# Altium integrated library Altera MAX 5000.IntLib: 45 symbols (part 1 of 2)
Pins are listed as number, name and electrical type; pins without a type are passive.

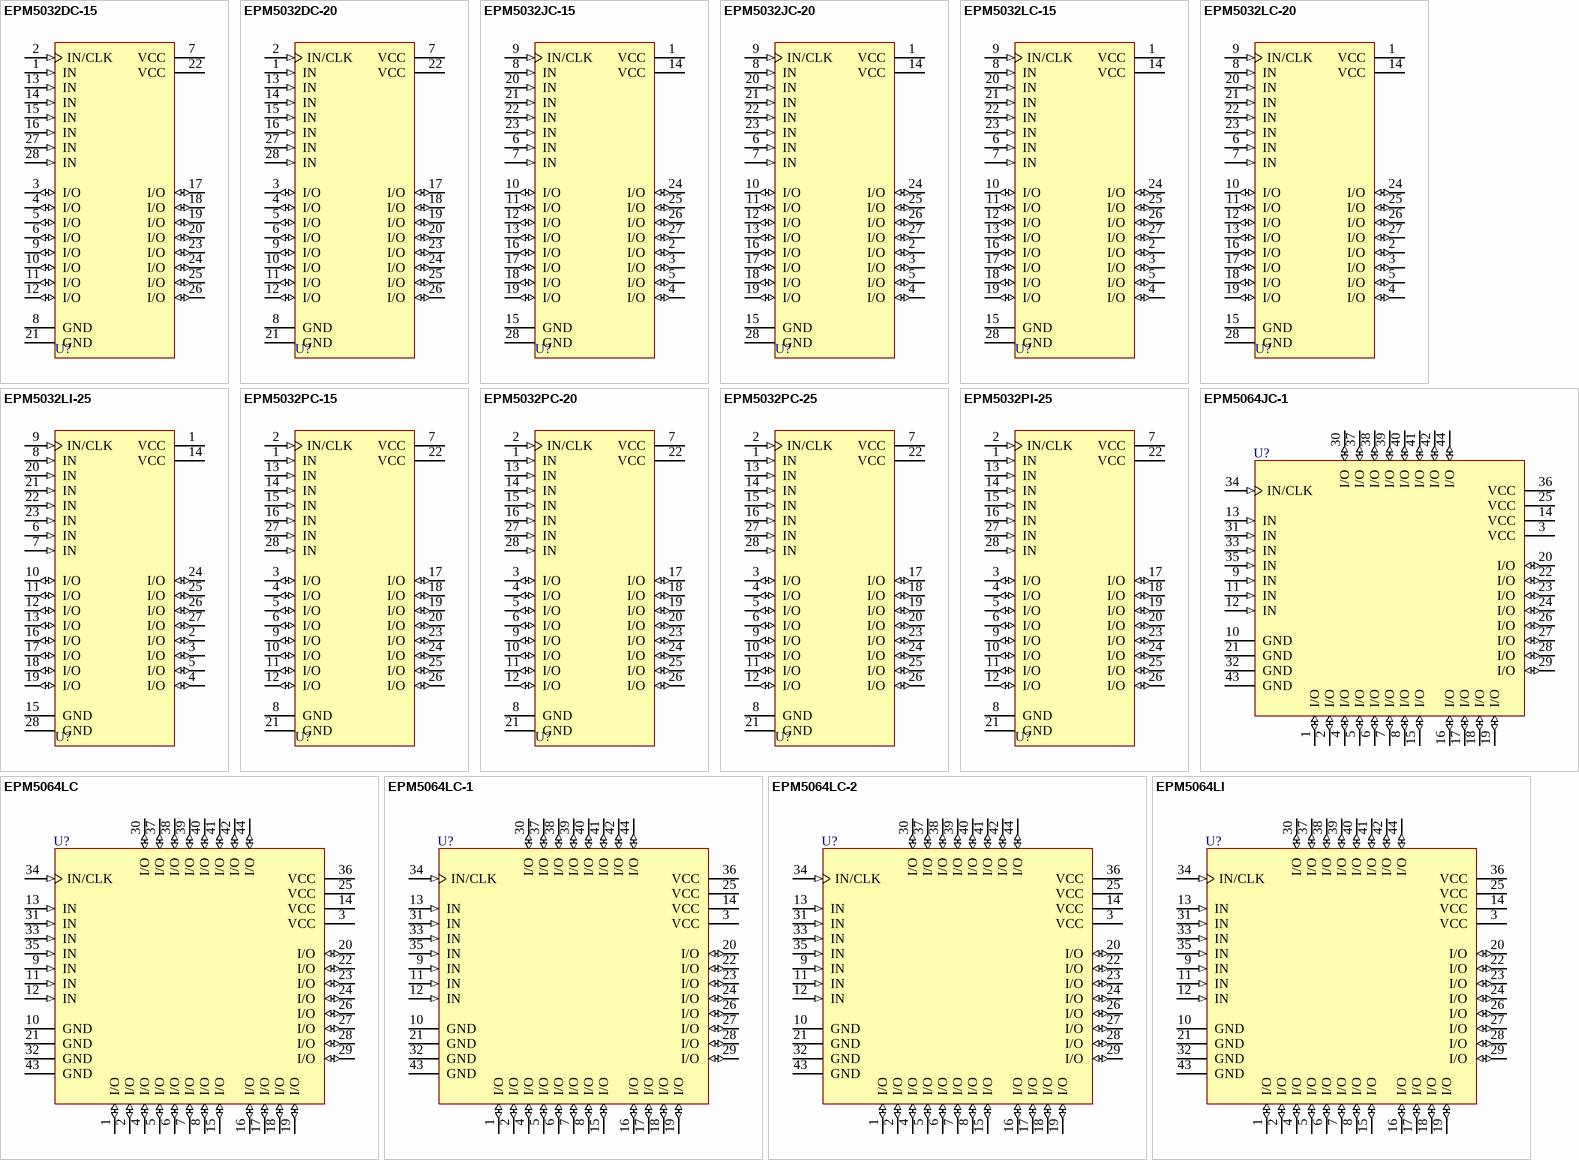
[diagram p0: symbols EPM5032DC-15 to EPM5064LI]

## EPM5032DC-15
designator U?
Single-LAB MAX 5000 EPLD, 28-Pin CDIP, Commercial Grade; ComponentAvailability: Discontinued; Published: 24-Nov-2000; LatestRevisionDate: 04-Mar-2005; LatestRevisionNote: Stylized 3D Model Added.; DatasheetVersion: Sep-1991; PackageVersion: ver8.02, Jun-2000; PackageReference: CerDIP28; Publisher: Altium Limited; PackageDescription: 28-Pin Ceramic Dual In-Line Package (CerDIP); Code_JEDEC: MO-058; ComponentLink1Description: Manufacturer Link; ComponentLink1URL: http://www.altera.com/literature/lit-mature.jsp
footprint CerDIP28 (28-Pin Ceramic Dual In-Line Package (CerDIP))
3D model CerDIP28 (28-Pin Ceramic Dual In-Line Package (CerDIP))
pins: 1 IN (in), 2 IN/CLK (in), 3 I/O (io), 4 I/O (io), 5 I/O (io), 6 I/O (io), 7 VCC (power), 8 GND (power), 9 I/O (io), 10 I/O (io), 11 I/O (io), 12 I/O (io), 13 IN (in), 14 IN (in), 15 IN (in), 16 IN (in), 17 I/O (io), 18 I/O (io), 19 I/O (io), 20 I/O (io), 21 GND (power), 22 VCC (power), 23 I/O (io), 24 I/O (io), 25 I/O (io), 26 I/O (io), 27 IN (in), 28 IN (in)

## EPM5032DC-20
designator U?
Single-LAB MAX 5000 EPLD, 28-Pin CDIP, Commercial Grade; ComponentAvailability: Discontinued; Published: 24-Nov-2000; LatestRevisionDate: 04-Mar-2005; LatestRevisionNote: Stylized 3D Model Added.; DatasheetVersion: Sep-1991; PackageVersion: ver8.02, Jun-2000; PackageReference: CerDIP28; Publisher: Altium Limited; PackageDescription: 28-Pin Ceramic Dual In-Line Package (CerDIP); Code_JEDEC: MO-058; ComponentLink1Description: Manufacturer Link; ComponentLink1URL: http://www.altera.com/literature/lit-mature.jsp
footprint CerDIP28 (28-Pin Ceramic Dual In-Line Package (CerDIP))
3D model CerDIP28 (28-Pin Ceramic Dual In-Line Package (CerDIP))
pins: 1 IN (in), 2 IN/CLK (in), 3 I/O (io), 4 I/O (io), 5 I/O (io), 6 I/O (io), 7 VCC (power), 8 GND (power), 9 I/O (io), 10 I/O (io), 11 I/O (io), 12 I/O (io), 13 IN (in), 14 IN (in), 15 IN (in), 16 IN (in), 17 I/O (io), 18 I/O (io), 19 I/O (io), 20 I/O (io), 21 GND (power), 22 VCC (power), 23 I/O (io), 24 I/O (io), 25 I/O (io), 26 I/O (io), 27 IN (in), 28 IN (in)

## EPM5032JC-15
designator U?
Single-LAB MAX 5000 EPLD, 28-Pin JLCC, Commercial Grade; ComponentAvailability: Discontinued; Published: 24-Nov-2000; LatestRevisionDate: 13-Apr-2006; LatestRevisionNote: IPC-7351 Footprint Added.; DatasheetVersion: Sep-1991; PackageVersion: ver8.02, Jun-2000; PackageReference: JLCC28; Publisher: Altium Limited; PackageDescription: 28-Pin Ceramic J-Lead Chip Carrier (JLCC28); Code_JEDEC: MO-087; ComponentLink1Description: Manufacturer Link; ComponentLink1URL: http://www.altera.com/literature/lit-mature.jsp
footprint JLCC28_N (Leaded Chip Carrier, 28-Leads, Body 11.4x11.4mm, Pitch 1.27mm, IPC Medium Density)
footprint JLCC28_L (Leaded Chip Carrier, 28-Leads, Body 11.4x11.4mm, Pitch 1.27mm, IPC High Density)
footprint JLCC28_M (Leaded Chip Carrier, 28-Leads, Body 11.4x11.4mm, Pitch 1.27mm, IPC Low Density)
3D model EPM5032-JLCC28 (28-Pin Ceramic J-Lead Chip Carrier (JLCC28))
pins: 1 VCC (power), 2 I/O (io), 3 I/O (io), 4 I/O (io), 5 I/O (io), 6 IN (in), 7 IN (in), 8 IN (in), 9 IN/CLK (in), 10 I/O (io), 11 I/O (io), 12 I/O (io), 13 I/O (io), 14 VCC (power), 15 GND (power), 16 I/O (io), 17 I/O (io), 18 I/O (io), 19 I/O (io), 20 IN (in), 21 IN (in), 22 IN (in), 23 IN (in), 24 I/O (io), 25 I/O (io), 26 I/O (io), 27 I/O (io), 28 GND (power)

## EPM5032JC-20
designator U?
Single-LAB MAX 5000 EPLD, 28-Pin JLCC, Commercial Grade; ComponentAvailability: Discontinued; Published: 24-Nov-2000; LatestRevisionDate: 13-Apr-2006; LatestRevisionNote: IPC-7351 Footprint Added.; DatasheetVersion: Sep-1991; PackageVersion: ver8.02, Jun-2000; PackageReference: JLCC28; Publisher: Altium Limited; PackageDescription: 28-Pin Ceramic J-Lead Chip Carrier (JLCC28); Code_JEDEC: MO-087; ComponentLink1Description: Manufacturer Link; ComponentLink1URL: http://www.altera.com/literature/lit-mature.jsp
footprint JLCC28_N (Leaded Chip Carrier, 28-Leads, Body 11.4x11.4mm, Pitch 1.27mm, IPC Medium Density)
footprint JLCC28_L (Leaded Chip Carrier, 28-Leads, Body 11.4x11.4mm, Pitch 1.27mm, IPC High Density)
footprint JLCC28_M (Leaded Chip Carrier, 28-Leads, Body 11.4x11.4mm, Pitch 1.27mm, IPC Low Density)
3D model EPM5032-JLCC28 (28-Pin Ceramic J-Lead Chip Carrier (JLCC28))
pins: 1 VCC (power), 2 I/O (io), 3 I/O (io), 4 I/O (io), 5 I/O (io), 6 IN (in), 7 IN (in), 8 IN (in), 9 IN/CLK (in), 10 I/O (io), 11 I/O (io), 12 I/O (io), 13 I/O (io), 14 VCC (power), 15 GND (power), 16 I/O (io), 17 I/O (io), 18 I/O (io), 19 I/O (io), 20 IN (in), 21 IN (in), 22 IN (in), 23 IN (in), 24 I/O (io), 25 I/O (io), 26 I/O (io), 27 I/O (io), 28 GND (power)

## EPM5032LC-15
designator U?
Single-LAB MAX 5000 EPLD, PLCC28, Commercial Grade; ComponentAvailability: Discontinued; Published: 24-Nov-2000; LatestRevisionDate: 13-Apr-2006; LatestRevisionNote: IPC-7351 Footprint Added.; DatasheetVersion: Sep-1991; PackageVersion: ver14.1, Oct-2005; PackageReference: PLCC28; Publisher: Altium Limited; PackageDescription: 28-Pin Plastic J-Lead Chip Carrier (PLCC28); Code_JEDEC: MS-018-AB; ComponentLink1Description: Manufacturer Link; ComponentLink1URL: http://www.altera.com/literature/lit-mature.jsp
footprint PLCC28_N (Leaded Chip Carrier, 28-Leads, Body 11.5x11.5mm, Pitch 1.27mm, IPC Medium Density)
footprint PLCC28_L (Leaded Chip Carrier, 28-Leads, Body 11.5x11.5mm, Pitch 1.27mm, IPC High Density)
footprint PLCC28_M (Leaded Chip Carrier, 28-Leads, Body 11.5x11.5mm, Pitch 1.27mm, IPC Low Density)
3D model EPM5032-PLCC28 (28-Pin Plastic J-Lead Chip Carrier (PLCC28))
pins: 1 VCC (power), 2 I/O (io), 3 I/O (io), 4 I/O (io), 5 I/O (io), 6 IN (in), 7 IN (in), 8 IN (in), 9 IN/CLK (in), 10 I/O (io), 11 I/O (io), 12 I/O (io), 13 I/O (io), 14 VCC (power), 15 GND (power), 16 I/O (io), 17 I/O (io), 18 I/O (io), 19 I/O (io), 20 IN (in), 21 IN (in), 22 IN (in), 23 IN (in), 24 I/O (io), 25 I/O (io), 26 I/O (io), 27 I/O (io), 28 GND (power)

## EPM5032LC-20
designator U?
Single-LAB MAX 5000 EPLD, PLCC28, Commercial Grade; ComponentAvailability: Discontinued; Published: 24-Nov-2000; LatestRevisionDate: 13-Apr-2006; LatestRevisionNote: IPC-7351 Footprint Added.; DatasheetVersion: Sep-1991; PackageVersion: ver14.1, Oct-2005; PackageReference: PLCC28; Publisher: Altium Limited; PackageDescription: 28-Pin Plastic J-Lead Chip Carrier (PLCC28); Code_JEDEC: MS-018-AB; ComponentLink1Description: Manufacturer Link; ComponentLink1URL: http://www.altera.com/literature/lit-mature.jsp
footprint PLCC28_N (Leaded Chip Carrier, 28-Leads, Body 11.5x11.5mm, Pitch 1.27mm, IPC Medium Density)
footprint PLCC28_L (Leaded Chip Carrier, 28-Leads, Body 11.5x11.5mm, Pitch 1.27mm, IPC High Density)
footprint PLCC28_M (Leaded Chip Carrier, 28-Leads, Body 11.5x11.5mm, Pitch 1.27mm, IPC Low Density)
3D model EPM5032-PLCC28 (28-Pin Plastic J-Lead Chip Carrier (PLCC28))
pins: 1 VCC (power), 2 I/O (io), 3 I/O (io), 4 I/O (io), 5 I/O (io), 6 IN (in), 7 IN (in), 8 IN (in), 9 IN/CLK (in), 10 I/O (io), 11 I/O (io), 12 I/O (io), 13 I/O (io), 14 VCC (power), 15 GND (power), 16 I/O (io), 17 I/O (io), 18 I/O (io), 19 I/O (io), 20 IN (in), 21 IN (in), 22 IN (in), 23 IN (in), 24 I/O (io), 25 I/O (io), 26 I/O (io), 27 I/O (io), 28 GND (power)

## EPM5032LI-25
designator U?
Single-LAB MAX 5000 EPLD, PLCC28, Industrial Grade; ComponentAvailability: Discontinued; Published: 24-Nov-2000; LatestRevisionDate: 13-Apr-2006; LatestRevisionNote: IPC-7351 Footprint Added.; DatasheetVersion: Sep-1991; PackageVersion: ver14.1, Oct-2005; PackageReference: PLCC28; Publisher: Altium Limited; PackageDescription: 28-Pin Plastic J-Lead Chip Carrier (PLCC28); Code_JEDEC: MS-018-AB; ComponentLink1Description: Manufacturer Link; ComponentLink1URL: http://www.altera.com/literature/lit-mature.jsp
footprint PLCC28_N (Leaded Chip Carrier, 28-Leads, Body 11.5x11.5mm, Pitch 1.27mm, IPC Medium Density)
footprint PLCC28_L (Leaded Chip Carrier, 28-Leads, Body 11.5x11.5mm, Pitch 1.27mm, IPC High Density)
footprint PLCC28_M (Leaded Chip Carrier, 28-Leads, Body 11.5x11.5mm, Pitch 1.27mm, IPC Low Density)
3D model EPM5032-PLCC28 (28-Pin Plastic J-Lead Chip Carrier (PLCC28))
pins: 1 VCC (power), 2 I/O (io), 3 I/O (io), 4 I/O (io), 5 I/O (io), 6 IN (in), 7 IN (in), 8 IN (in), 9 IN/CLK (in), 10 I/O (io), 11 I/O (io), 12 I/O (io), 13 I/O (io), 14 VCC (power), 15 GND (power), 16 I/O (io), 17 I/O (io), 18 I/O (io), 19 I/O (io), 20 IN (in), 21 IN (in), 22 IN (in), 23 IN (in), 24 I/O (io), 25 I/O (io), 26 I/O (io), 27 I/O (io), 28 GND (power)

## EPM5032PC-15
designator U?
Single-LAB MAX 5000 EPLD, 28-Pin PDIP, Commercial Grade; ComponentAvailability: Discontinued; Published: 24-Nov-2000; LatestRevisionDate: 04-Mar-2005; LatestRevisionNote: Stylized 3D Model Added.; DatasheetVersion: Sep-1991; PackageVersion: ver12.0, Oct-2003; PackageReference: PDIP28; Publisher: Altium Limited; PackageDescription: 28-Pin Plastic Dual In-Line Package (PDIP); Code_JEDEC: MS-001-AG; ComponentLink1Description: Manufacturer Link; ComponentLink1URL: http://www.altera.com/literature/lit-mature.jsp
footprint PDIP28 (28-Pin Plastic Dual In-Line Package (PDIP))
3D model PDIP28 (28-Pin Plastic Dual In-Line Package (PDIP))
pins: 1 IN (in), 2 IN/CLK (in), 3 I/O (io), 4 I/O (io), 5 I/O (io), 6 I/O (io), 7 VCC (power), 8 GND (power), 9 I/O (io), 10 I/O (io), 11 I/O (io), 12 I/O (io), 13 IN (in), 14 IN (in), 15 IN (in), 16 IN (in), 17 I/O (io), 18 I/O (io), 19 I/O (io), 20 I/O (io), 21 GND (power), 22 VCC (power), 23 I/O (io), 24 I/O (io), 25 I/O (io), 26 I/O (io), 27 IN (in), 28 IN (in)

## EPM5032PC-20
designator U?
Single-LAB MAX 5000 EPLD, 28-Pin PDIP, Commercial Grade; ComponentAvailability: Discontinued; Published: 24-Nov-2000; LatestRevisionDate: 04-Mar-2005; LatestRevisionNote: Stylized 3D Model Added.; DatasheetVersion: Sep-1991; PackageVersion: ver12.0, Oct-2003; PackageReference: PDIP28; Publisher: Altium Limited; PackageDescription: 28-Pin Plastic Dual In-Line Package (PDIP); Code_JEDEC: MS-001-AG; ComponentLink1Description: Manufacturer Link; ComponentLink1URL: http://www.altera.com/literature/lit-mature.jsp
footprint PDIP28 (28-Pin Plastic Dual In-Line Package (PDIP))
3D model PDIP28 (28-Pin Plastic Dual In-Line Package (PDIP))
pins: 1 IN (in), 2 IN/CLK (in), 3 I/O (io), 4 I/O (io), 5 I/O (io), 6 I/O (io), 7 VCC (power), 8 GND (power), 9 I/O (io), 10 I/O (io), 11 I/O (io), 12 I/O (io), 13 IN (in), 14 IN (in), 15 IN (in), 16 IN (in), 17 I/O (io), 18 I/O (io), 19 I/O (io), 20 I/O (io), 21 GND (power), 22 VCC (power), 23 I/O (io), 24 I/O (io), 25 I/O (io), 26 I/O (io), 27 IN (in), 28 IN (in)

## EPM5032PC-25
designator U?
Single-LAB MAX 5000 EPLD, 28-Pin PDIP, Commercial Grade; ComponentAvailability: Discontinued; Published: 24-Nov-2000; LatestRevisionDate: 04-Mar-2005; LatestRevisionNote: Stylized 3D Model Added.; DatasheetVersion: Sep-1991; PackageVersion: ver12.0, Oct-2003; PackageReference: PDIP28; Publisher: Altium Limited; PackageDescription: 28-Pin Plastic Dual In-Line Package (PDIP); Code_JEDEC: MS-001-AG; ComponentLink1Description: Manufacturer Link; ComponentLink1URL: http://www.altera.com/literature/lit-mature.jsp
footprint PDIP28 (28-Pin Plastic Dual In-Line Package (PDIP))
3D model PDIP28 (28-Pin Plastic Dual In-Line Package (PDIP))
pins: 1 IN (in), 2 IN/CLK (in), 3 I/O (io), 4 I/O (io), 5 I/O (io), 6 I/O (io), 7 VCC (power), 8 GND (power), 9 I/O (io), 10 I/O (io), 11 I/O (io), 12 I/O (io), 13 IN (in), 14 IN (in), 15 IN (in), 16 IN (in), 17 I/O (io), 18 I/O (io), 19 I/O (io), 20 I/O (io), 21 GND (power), 22 VCC (power), 23 I/O (io), 24 I/O (io), 25 I/O (io), 26 I/O (io), 27 IN (in), 28 IN (in)

## EPM5032PI-25
designator U?
Single-LAB MAX 5000 EPLD, 28-Pin PDIP, Industrial Grade; ComponentAvailability: Discontinued; Published: 24-Nov-2000; LatestRevisionDate: 04-Mar-2005; LatestRevisionNote: Stylized 3D Model Added.; DatasheetVersion: Sep-1991; PackageVersion: ver12.0, Oct-2003; PackageReference: PDIP28; Publisher: Altium Limited; PackageDescription: 28-Pin Plastic Dual In-Line Package (PDIP); Code_JEDEC: MS-001-AG; ComponentLink1Description: Manufacturer Link; ComponentLink1URL: http://www.altera.com/literature/lit-mature.jsp
footprint PDIP28 (28-Pin Plastic Dual In-Line Package (PDIP))
3D model PDIP28 (28-Pin Plastic Dual In-Line Package (PDIP))
pins: 1 IN (in), 2 IN/CLK (in), 3 I/O (io), 4 I/O (io), 5 I/O (io), 6 I/O (io), 7 VCC (power), 8 GND (power), 9 I/O (io), 10 I/O (io), 11 I/O (io), 12 I/O (io), 13 IN (in), 14 IN (in), 15 IN (in), 16 IN (in), 17 I/O (io), 18 I/O (io), 19 I/O (io), 20 I/O (io), 21 GND (power), 22 VCC (power), 23 I/O (io), 24 I/O (io), 25 I/O (io), 26 I/O (io), 27 IN (in), 28 IN (in)

## EPM5064JC-1
designator U?
General-Purpose MAX 5000 EPLD with 64 Macrocells, JLCC44, Commercial Grade; ComponentAvailability: Discontinued; Published: 24-Nov-2000; LatestRevisionDate: 13-Apr-2006; LatestRevisionNote: IPC-7351 Footprint Added.; DatasheetVersion: Sep-1991; PackageVersion: ver8.02, Jun-2000; PackageReference: JLCC44; Publisher: Altium Limited; PackageDescription: 44-Pin Ceramic J-Lead Chip Carrier (JLCC44); Code_JEDEC: MO-087; ComponentLink1Description: Manufacturer Link; ComponentLink1URL: http://www.altera.com/literature/lit-mature.jsp
footprint JLCC44_N (Leaded Chip Carrier, 44-Leads, Body 16.5x16.5mm, Pitch 1.27mm, IPC Medium Density)
footprint JLCC44_L (Leaded Chip Carrier, 44-Leads, Body 16.5x16.5mm, Pitch 1.27mm, IPC High Density)
footprint JLCC44_M (Leaded Chip Carrier, 44-Leads, Body 16.5x16.5mm, Pitch 1.27mm, IPC Low Density)
3D model EPM5064-JLCC44 (44-Pin Ceramic J-Lead Chip Carrier (JLCC44))
pins: 1 I/O (io), 2 I/O (io), 3 VCC (power), 4 I/O (io), 5 I/O (io), 6 I/O (io), 7 I/O (io), 8 I/O (io), 9 IN (in), 10 GND (power), 11 IN (in), 12 IN (in), 13 IN (in), 14 VCC (power), 15 I/O (io), 16 I/O (io), 17 I/O (io), 18 I/O (io), 19 I/O (io), 20 I/O (io), 21 GND (power), 22 I/O (io), 23 I/O (io), 24 I/O (io), 25 VCC (power), 26 I/O (io), 27 I/O (io), 28 I/O (io), 29 I/O (io), 30 I/O (io), 31 IN (in), 32 GND (power), 33 IN (in), 34 IN/CLK (in), 35 IN (in), 36 VCC (power), 37 I/O (io), 38 I/O (io), 39 I/O (io), 40 I/O (io), 41 I/O (io), 42 I/O (io), 43 GND (power), 44 I/O (io)

## EPM5064LC
designator U?
General-Purpose MAX 5000 EPLD with 64 Macrocells, PLCC44, Commercial Grade; ComponentAvailability: Discontinued; Published: 24-Nov-2000; LatestRevisionDate: 13-Apr-2006; LatestRevisionNote: IPC-7351 Footprint Added.; DatasheetVersion: Sep-1991; PackageVersion: ver14.1, Oct-2005; PackageReference: PLCC44; Publisher: Altium Limited; PackageDescription: 44-Pin Plastic J-Lead Chip Carrier (PLCC44); Code_JEDEC: MS-018-AC; Code_IPC: PLCC-44; ComponentLink1Description: Manufacturer Link; ComponentLink1URL: http://www.altera.com/literature/lit-mature.jsp
footprint PLCC44_N (Leaded Chip Carrier, 44-Leads, Body 16.6x16.6mm, Pitch 1.27mm, IPC Medium Density)
footprint PLCC44_L (Leaded Chip Carrier, 44-Leads, Body 16.6x16.6mm, Pitch 1.27mm, IPC High Density)
footprint PLCC44_M (Leaded Chip Carrier, 44-Leads, Body 16.6x16.6mm, Pitch 1.27mm, IPC Low Density)
3D model EPM5064-PLCC44 (44-Pin Plastic J-Lead Chip Carrier (PLCC44))
pins: 1 I/O (io), 2 I/O (io), 3 VCC (power), 4 I/O (io), 5 I/O (io), 6 I/O (io), 7 I/O (io), 8 I/O (io), 9 IN (in), 10 GND (power), 11 IN (in), 12 IN (in), 13 IN (in), 14 VCC (power), 15 I/O (io), 16 I/O (io), 17 I/O (io), 18 I/O (io), 19 I/O (io), 20 I/O (io), 21 GND (power), 22 I/O (io), 23 I/O (io), 24 I/O (io), 25 VCC (power), 26 I/O (io), 27 I/O (io), 28 I/O (io), 29 I/O (io), 30 I/O (io), 31 IN (in), 32 GND (power), 33 IN (in), 34 IN/CLK (in), 35 IN (in), 36 VCC (power), 37 I/O (io), 38 I/O (io), 39 I/O (io), 40 I/O (io), 41 I/O (io), 42 I/O (io), 43 GND (power), 44 I/O (io)

## EPM5064LC-1
designator U?
General-Purpose MAX 5000 EPLD with 64 Macrocells, PLCC44, Commercial Grade; ComponentAvailability: Discontinued; Published: 24-Nov-2000; LatestRevisionDate: 13-Apr-2006; LatestRevisionNote: IPC-7351 Footprint Added.; DatasheetVersion: Sep-1991; PackageVersion: ver14.1, Oct-2005; PackageReference: PLCC44; Publisher: Altium Limited; PackageDescription: 44-Pin Plastic J-Lead Chip Carrier (PLCC44); Code_JEDEC: MS-018-AC; Code_IPC: PLCC-44; ComponentLink1Description: Manufacturer Link; ComponentLink1URL: http://www.altera.com/literature/lit-mature.jsp
footprint PLCC44_N (Leaded Chip Carrier, 44-Leads, Body 16.6x16.6mm, Pitch 1.27mm, IPC Medium Density)
footprint PLCC44_L (Leaded Chip Carrier, 44-Leads, Body 16.6x16.6mm, Pitch 1.27mm, IPC High Density)
footprint PLCC44_M (Leaded Chip Carrier, 44-Leads, Body 16.6x16.6mm, Pitch 1.27mm, IPC Low Density)
3D model EPM5064-PLCC44 (44-Pin Plastic J-Lead Chip Carrier (PLCC44))
pins: 1 I/O (io), 2 I/O (io), 3 VCC (power), 4 I/O (io), 5 I/O (io), 6 I/O (io), 7 I/O (io), 8 I/O (io), 9 IN (in), 10 GND (power), 11 IN (in), 12 IN (in), 13 IN (in), 14 VCC (power), 15 I/O (io), 16 I/O (io), 17 I/O (io), 18 I/O (io), 19 I/O (io), 20 I/O (io), 21 GND (power), 22 I/O (io), 23 I/O (io), 24 I/O (io), 25 VCC (power), 26 I/O (io), 27 I/O (io), 28 I/O (io), 29 I/O (io), 30 I/O (io), 31 IN (in), 32 GND (power), 33 IN (in), 34 IN/CLK (in), 35 IN (in), 36 VCC (power), 37 I/O (io), 38 I/O (io), 39 I/O (io), 40 I/O (io), 41 I/O (io), 42 I/O (io), 43 GND (power), 44 I/O (io)

## EPM5064LC-2
designator U?
General-Purpose MAX 5000 EPLD with 64 Macrocells, PLCC44, Commercial Grade; ComponentAvailability: Discontinued; Published: 24-Nov-2000; LatestRevisionDate: 13-Apr-2006; LatestRevisionNote: IPC-7351 Footprint Added.; DatasheetVersion: Sep-1991; PackageVersion: ver14.1, Oct-2005; PackageReference: PLCC44; Publisher: Altium Limited; PackageDescription: 44-Pin Plastic J-Lead Chip Carrier (PLCC44); Code_JEDEC: MS-018-AC; Code_IPC: PLCC-44; ComponentLink1Description: Manufacturer Link; ComponentLink1URL: http://www.altera.com/literature/lit-mature.jsp
footprint PLCC44_N (Leaded Chip Carrier, 44-Leads, Body 16.6x16.6mm, Pitch 1.27mm, IPC Medium Density)
footprint PLCC44_L (Leaded Chip Carrier, 44-Leads, Body 16.6x16.6mm, Pitch 1.27mm, IPC High Density)
footprint PLCC44_M (Leaded Chip Carrier, 44-Leads, Body 16.6x16.6mm, Pitch 1.27mm, IPC Low Density)
3D model EPM5064-PLCC44 (44-Pin Plastic J-Lead Chip Carrier (PLCC44))
pins: 1 I/O (io), 2 I/O (io), 3 VCC (power), 4 I/O (io), 5 I/O (io), 6 I/O (io), 7 I/O (io), 8 I/O (io), 9 IN (in), 10 GND (power), 11 IN (in), 12 IN (in), 13 IN (in), 14 VCC (power), 15 I/O (io), 16 I/O (io), 17 I/O (io), 18 I/O (io), 19 I/O (io), 20 I/O (io), 21 GND (power), 22 I/O (io), 23 I/O (io), 24 I/O (io), 25 VCC (power), 26 I/O (io), 27 I/O (io), 28 I/O (io), 29 I/O (io), 30 I/O (io), 31 IN (in), 32 GND (power), 33 IN (in), 34 IN/CLK (in), 35 IN (in), 36 VCC (power), 37 I/O (io), 38 I/O (io), 39 I/O (io), 40 I/O (io), 41 I/O (io), 42 I/O (io), 43 GND (power), 44 I/O (io)

## EPM5064LI
designator U?
General-Purpose MAX 5000 EPLD with 64 Macrocells, PLCC44, Industrial Grade; ComponentAvailability: Discontinued; Published: 24-Nov-2000; LatestRevisionDate: 13-Apr-2006; LatestRevisionNote: IPC-7351 Footprint Added.; DatasheetVersion: Sep-1991; PackageVersion: ver14.1, Oct-2005; PackageReference: PLCC44; Publisher: Altium Limited; PackageDescription: 44-Pin Plastic J-Lead Chip Carrier (PLCC44); Code_JEDEC: MS-018-AC; Code_IPC: PLCC-44; ComponentLink1Description: Manufacturer Link; ComponentLink1URL: http://www.altera.com/literature/lit-mature.jsp
footprint PLCC44_N (Leaded Chip Carrier, 44-Leads, Body 16.6x16.6mm, Pitch 1.27mm, IPC Medium Density)
footprint PLCC44_L (Leaded Chip Carrier, 44-Leads, Body 16.6x16.6mm, Pitch 1.27mm, IPC High Density)
footprint PLCC44_M (Leaded Chip Carrier, 44-Leads, Body 16.6x16.6mm, Pitch 1.27mm, IPC Low Density)
3D model EPM5064-PLCC44 (44-Pin Plastic J-Lead Chip Carrier (PLCC44))
pins: 1 I/O (io), 2 I/O (io), 3 VCC (power), 4 I/O (io), 5 I/O (io), 6 I/O (io), 7 I/O (io), 8 I/O (io), 9 IN (in), 10 GND (power), 11 IN (in), 12 IN (in), 13 IN (in), 14 VCC (power), 15 I/O (io), 16 I/O (io), 17 I/O (io), 18 I/O (io), 19 I/O (io), 20 I/O (io), 21 GND (power), 22 I/O (io), 23 I/O (io), 24 I/O (io), 25 VCC (power), 26 I/O (io), 27 I/O (io), 28 I/O (io), 29 I/O (io), 30 I/O (io), 31 IN (in), 32 GND (power), 33 IN (in), 34 IN/CLK (in), 35 IN (in), 36 VCC (power), 37 I/O (io), 38 I/O (io), 39 I/O (io), 40 I/O (io), 41 I/O (io), 42 I/O (io), 43 GND (power), 44 I/O (io)

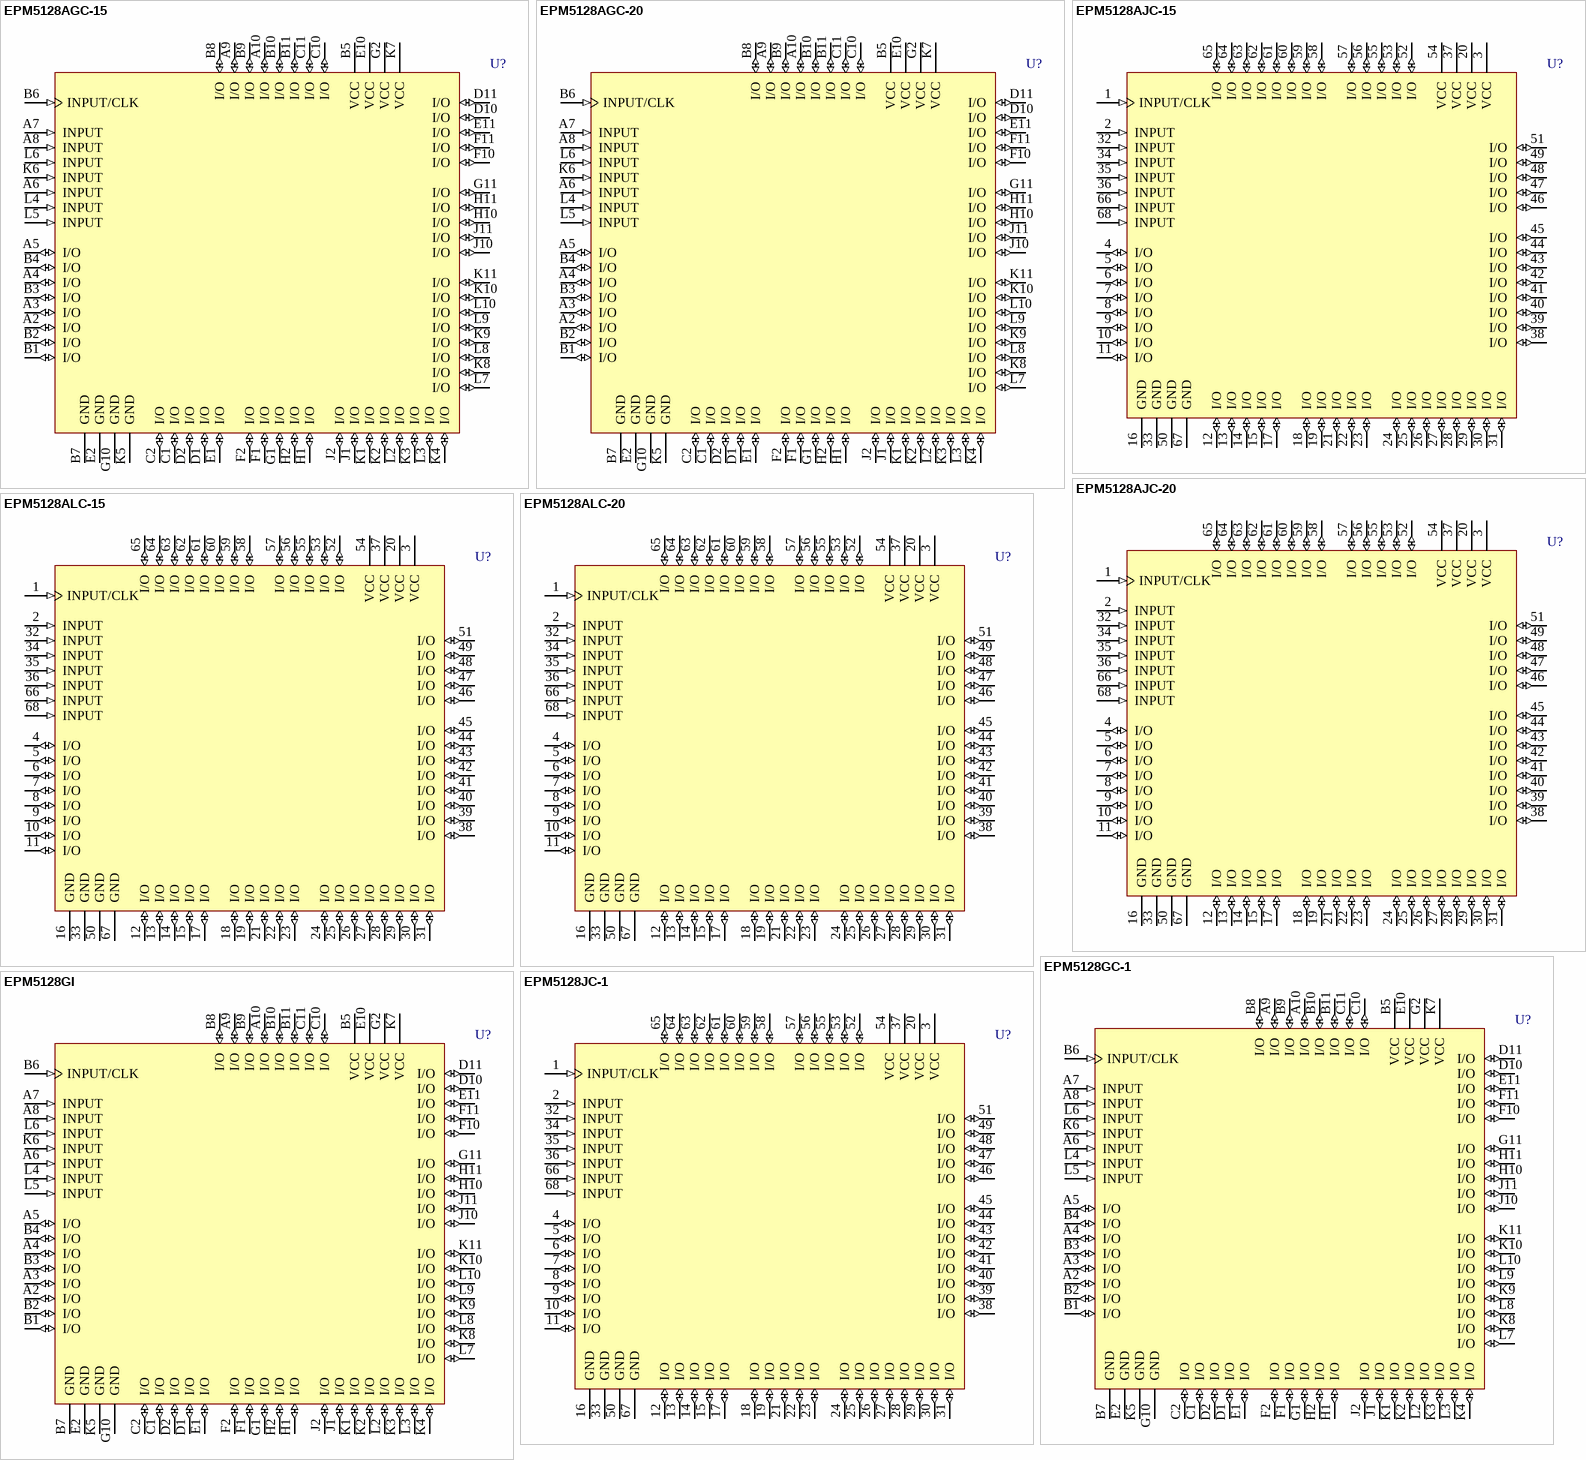
[diagram p1: symbols EPM5128AGC-15 to EPM5128JC-1]

## EPM5128AGC-15
designator U?
General-Purpose MAX 5000 EPLD with 128 Macrocells, PGA68, Commercial Grade; ComponentAvailability: Discontinued; Published: 24-Nov-2000; LatestRevisionDate: 04-Mar-2005; LatestRevisionNote: Stylized 3D Model Added.; DatasheetVersion: Mar-1995; PackageVersion: ver14.1, Oct-2005; PackageReference: PGA68; Publisher: Altium Limited; PackageDescription: 68-Pin Ceramic Pin Grid Array (PGA68); Code_JEDEC: MO-066-AC; ComponentLink1Description: Manufacturer Link; ComponentLink1URL: http://www.altera.com/literature/lit-mature.jsp
footprint PGA68 (PGA, 68-Leads, Body 28x28mm, Pitch 2.54mm)
3D model EPM5128-PGA68 (68-Pin Ceramic Pin Grid Array (PGA68))
pins: A2 I/O (io), A3 I/O (io), A4 I/O (io), A5 I/O (io), A6 INPUT (in), A7 INPUT (in), A8 INPUT (in), A9 I/O (io), A10 I/O (io), B1 I/O (io), B2 I/O (io), B3 I/O (io), B4 I/O (io), B5 VCC (power), B6 INPUT/CLK (in), B7 GND (power), B8 I/O (io), B9 I/O (io), B10 I/O (io), B11 I/O (io), C1 I/O (io), C2 I/O (io), C10 I/O (io), C11 I/O (io), D1 I/O (io), D2 I/O (io), D10 I/O (io), D11 I/O (io), E1 I/O (io), E2 GND (power), E10 VCC (power), E11 I/O (io), F1 I/O (io), F2 I/O (io), F10 I/O (io), F11 I/O (io), G1 I/O (io), G2 VCC (power), G10 GND (power), G11 I/O (io), H1 I/O (io), H2 I/O (io), H10 I/O (io), H11 I/O (io), J1 I/O (io), J2 I/O (io), J10 I/O (io), J11 I/O (io), K1 I/O (io), K2 I/O (io), K3 I/O (io), K4 I/O (io), K5 GND (power), K6 INPUT (in), K7 VCC (power), K8 I/O (io), K9 I/O (io), K10 I/O (io), K11 I/O (io), L2 I/O (io), L3 I/O (io), L4 INPUT (in), L5 INPUT (in), L6 INPUT (in), L7 I/O (io), L8 I/O (io), L9 I/O (io), L10 I/O (io)

## EPM5128AGC-20
designator U?
General-Purpose MAX 5000 EPLD with 128 Macrocells, PGA68, Commercial Grade; ComponentAvailability: Discontinued; Published: 24-Nov-2000; LatestRevisionDate: 04-Mar-2005; LatestRevisionNote: Stylized 3D Model Added.; DatasheetVersion: Mar-1995; PackageVersion: ver14.1, Oct-2005; PackageReference: PGA68; Publisher: Altium Limited; PackageDescription: 68-Pin Ceramic Pin Grid Array (PGA68); Code_JEDEC: MO-066-AC; ComponentLink1Description: Manufacturer Link; ComponentLink1URL: http://www.altera.com/literature/lit-mature.jsp
footprint PGA68 (PGA, 68-Leads, Body 28x28mm, Pitch 2.54mm)
3D model EPM5128-PGA68 (68-Pin Ceramic Pin Grid Array (PGA68))
pins: A2 I/O (io), A3 I/O (io), A4 I/O (io), A5 I/O (io), A6 INPUT (in), A7 INPUT (in), A8 INPUT (in), A9 I/O (io), A10 I/O (io), B1 I/O (io), B2 I/O (io), B3 I/O (io), B4 I/O (io), B5 VCC (power), B6 INPUT/CLK (in), B7 GND (power), B8 I/O (io), B9 I/O (io), B10 I/O (io), B11 I/O (io), C1 I/O (io), C2 I/O (io), C10 I/O (io), C11 I/O (io), D1 I/O (io), D2 I/O (io), D10 I/O (io), D11 I/O (io), E1 I/O (io), E2 GND (power), E10 VCC (power), E11 I/O (io), F1 I/O (io), F2 I/O (io), F10 I/O (io), F11 I/O (io), G1 I/O (io), G2 VCC (power), G10 GND (power), G11 I/O (io), H1 I/O (io), H2 I/O (io), H10 I/O (io), H11 I/O (io), J1 I/O (io), J2 I/O (io), J10 I/O (io), J11 I/O (io), K1 I/O (io), K2 I/O (io), K3 I/O (io), K4 I/O (io), K5 GND (power), K6 INPUT (in), K7 VCC (power), K8 I/O (io), K9 I/O (io), K10 I/O (io), K11 I/O (io), L2 I/O (io), L3 I/O (io), L4 INPUT (in), L5 INPUT (in), L6 INPUT (in), L7 I/O (io), L8 I/O (io), L9 I/O (io), L10 I/O (io)

## EPM5128AJC-15
designator U?
General-Purpose MAX 5000 EPLD with 128 Macrocells, JLCC68, Commercial Grade; ComponentAvailability: Discontinued; Published: 24-Nov-2000; LatestRevisionDate: 13-Apr-2006; LatestRevisionNote: IPC-7351 Footprint Added.; DatasheetVersion: Mar-1995; PackageVersion: ver8.02, Jun-2000; PackageReference: JLCC68; Publisher: Altium Limited; PackageDescription: 68-Pin Ceramic J-Lead Chip Carrier (JLCC68); Code_JEDEC: MO-087; ComponentLink1Description: Manufacturer Link; ComponentLink1URL: http://www.altera.com/literature/lit-mature.jsp
footprint JLCC68_N (Leaded Chip Carrier, 68-Leads, Body 24x24mm, Pitch 1.27mm, IPC Medium Density)
footprint JLCC68_L (Leaded Chip Carrier, 68-Leads, Body 24x24mm, Pitch 1.27mm, IPC High Density)
footprint JLCC68_M (Leaded Chip Carrier, 68-Leads, Body 24x24mm, Pitch 1.27mm, IPC Low Density)
3D model EPM5128-JLCC68 (68-Pin Ceramic J-Lead Chip Carrier (JLCC68))
pins: 1 INPUT/CLK (in), 2 INPUT (in), 3 VCC (power), 4 I/O (io), 5 I/O (io), 6 I/O (io), 7 I/O (io), 8 I/O (io), 9 I/O (io), 10 I/O (io), 11 I/O (io), 12 I/O (io), 13 I/O (io), 14 I/O (io), 15 I/O (io), 16 GND (power), 17 I/O (io), 18 I/O (io), 19 I/O (io), 20 VCC (power), 21 I/O (io), 22 I/O (io), 23 I/O (io), 24 I/O (io), 25 I/O (io), 26 I/O (io), 27 I/O (io), 28 I/O (io), 29 I/O (io), 30 I/O (io), 31 I/O (io), 32 INPUT (in), 33 GND (power), 34 INPUT (in), 35 INPUT (in), 36 INPUT (in), 37 VCC (power), 38 I/O (io), 39 I/O (io), 40 I/O (io), 41 I/O (io), 42 I/O (io), 43 I/O (io), 44 I/O (io), 45 I/O (io), 46 I/O (io), 47 I/O (io), 48 I/O (io), 49 I/O (io), 50 GND (power), 51 I/O (io), 52 I/O (io), 53 I/O (io), 54 VCC (power), 55 I/O (io), 56 I/O (io), 57 I/O (io), 58 I/O (io), 59 I/O (io), 60 I/O (io), 61 I/O (io), 62 I/O (io), 63 I/O (io), 64 I/O (io), 65 I/O (io), 66 INPUT (in), 67 GND (power), 68 INPUT (in)

## EPM5128AJC-20
designator U?
General-Purpose MAX 5000 EPLD with 128 Macrocells, JLCC68, Commercial Grade; ComponentAvailability: Discontinued; Published: 24-Nov-2000; LatestRevisionDate: 13-Apr-2006; LatestRevisionNote: IPC-7351 Footprint Added.; DatasheetVersion: Mar-1995; PackageVersion: ver8.02, Jun-2000; PackageReference: JLCC68; Publisher: Altium Limited; PackageDescription: 68-Pin Ceramic J-Lead Chip Carrier (JLCC68); Code_JEDEC: MO-087; ComponentLink1Description: Manufacturer Link; ComponentLink1URL: http://www.altera.com/literature/lit-mature.jsp
footprint JLCC68_N (Leaded Chip Carrier, 68-Leads, Body 24x24mm, Pitch 1.27mm, IPC Medium Density)
footprint JLCC68_L (Leaded Chip Carrier, 68-Leads, Body 24x24mm, Pitch 1.27mm, IPC High Density)
footprint JLCC68_M (Leaded Chip Carrier, 68-Leads, Body 24x24mm, Pitch 1.27mm, IPC Low Density)
3D model EPM5128-JLCC68 (68-Pin Ceramic J-Lead Chip Carrier (JLCC68))
pins: 1 INPUT/CLK (in), 2 INPUT (in), 3 VCC (power), 4 I/O (io), 5 I/O (io), 6 I/O (io), 7 I/O (io), 8 I/O (io), 9 I/O (io), 10 I/O (io), 11 I/O (io), 12 I/O (io), 13 I/O (io), 14 I/O (io), 15 I/O (io), 16 GND (power), 17 I/O (io), 18 I/O (io), 19 I/O (io), 20 VCC (power), 21 I/O (io), 22 I/O (io), 23 I/O (io), 24 I/O (io), 25 I/O (io), 26 I/O (io), 27 I/O (io), 28 I/O (io), 29 I/O (io), 30 I/O (io), 31 I/O (io), 32 INPUT (in), 33 GND (power), 34 INPUT (in), 35 INPUT (in), 36 INPUT (in), 37 VCC (power), 38 I/O (io), 39 I/O (io), 40 I/O (io), 41 I/O (io), 42 I/O (io), 43 I/O (io), 44 I/O (io), 45 I/O (io), 46 I/O (io), 47 I/O (io), 48 I/O (io), 49 I/O (io), 50 GND (power), 51 I/O (io), 52 I/O (io), 53 I/O (io), 54 VCC (power), 55 I/O (io), 56 I/O (io), 57 I/O (io), 58 I/O (io), 59 I/O (io), 60 I/O (io), 61 I/O (io), 62 I/O (io), 63 I/O (io), 64 I/O (io), 65 I/O (io), 66 INPUT (in), 67 GND (power), 68 INPUT (in)

## EPM5128ALC-15
designator U?
General-Purpose MAX 5000 EPLD with 128 Macrocells, PLCC68, Commercial Grade; ComponentAvailability: Discontinued; Published: 24-Nov-2000; LatestRevisionDate: 13-Apr-2006; LatestRevisionNote: IPC-7351 Footprint Added.; DatasheetVersion: Mar-1995; PackageVersion: ver14.1, Oct-2005; PackageReference: PLCC68; Publisher: Altium Limited; PackageDescription: 68-Pin Plastic J-Lead Chip Carrier (PLCC68); Code_JEDEC: MS-018-AE; Code_IPC: PLCC-68; ComponentLink1Description: Manufacturer Link; ComponentLink1URL: http://www.altera.com/literature/lit-mature.jsp
footprint PLCC68_N (Leaded Chip Carrier, 68-Leads, Body 24x24mm, Pitch 1.27mm, IPC Medium Density)
footprint PLCC68_L (Leaded Chip Carrier, 68-Leads, Body 24x24mm, Pitch 1.27mm, IPC High Density)
footprint PLCC68_M (Leaded Chip Carrier, 68-Leads, Body 24x24mm, Pitch 1.27mm, IPC Low Density)
3D model EPM5128-PLCC68 (68-Pin Plastic J-Lead Chip Carrier (PLCC68))
pins: 1 INPUT/CLK (in), 2 INPUT (in), 3 VCC (power), 4 I/O (io), 5 I/O (io), 6 I/O (io), 7 I/O (io), 8 I/O (io), 9 I/O (io), 10 I/O (io), 11 I/O (io), 12 I/O (io), 13 I/O (io), 14 I/O (io), 15 I/O (io), 16 GND (power), 17 I/O (io), 18 I/O (io), 19 I/O (io), 20 VCC (power), 21 I/O (io), 22 I/O (io), 23 I/O (io), 24 I/O (io), 25 I/O (io), 26 I/O (io), 27 I/O (io), 28 I/O (io), 29 I/O (io), 30 I/O (io), 31 I/O (io), 32 INPUT (in), 33 GND (power), 34 INPUT (in), 35 INPUT (in), 36 INPUT (in), 37 VCC (power), 38 I/O (io), 39 I/O (io), 40 I/O (io), 41 I/O (io), 42 I/O (io), 43 I/O (io), 44 I/O (io), 45 I/O (io), 46 I/O (io), 47 I/O (io), 48 I/O (io), 49 I/O (io), 50 GND (power), 51 I/O (io), 52 I/O (io), 53 I/O (io), 54 VCC (power), 55 I/O (io), 56 I/O (io), 57 I/O (io), 58 I/O (io), 59 I/O (io), 60 I/O (io), 61 I/O (io), 62 I/O (io), 63 I/O (io), 64 I/O (io), 65 I/O (io), 66 INPUT (in), 67 GND (power), 68 INPUT (in)

## EPM5128ALC-20
designator U?
General-Purpose MAX 5000 EPLD with 128 Macrocells, PLCC68, Commercial Grade; ComponentAvailability: Discontinued; Published: 24-Nov-2000; LatestRevisionDate: 13-Apr-2006; LatestRevisionNote: IPC-7351 Footprint Added.; DatasheetVersion: Mar-1995; PackageVersion: ver14.1, Oct-2005; PackageReference: PLCC68; Publisher: Altium Limited; PackageDescription: 68-Pin Plastic J-Lead Chip Carrier (PLCC68); Code_JEDEC: MS-018-AE; Code_IPC: PLCC-68; ComponentLink1Description: Manufacturer Link; ComponentLink1URL: http://www.altera.com/literature/lit-mature.jsp
footprint PLCC68_N (Leaded Chip Carrier, 68-Leads, Body 24x24mm, Pitch 1.27mm, IPC Medium Density)
footprint PLCC68_L (Leaded Chip Carrier, 68-Leads, Body 24x24mm, Pitch 1.27mm, IPC High Density)
footprint PLCC68_M (Leaded Chip Carrier, 68-Leads, Body 24x24mm, Pitch 1.27mm, IPC Low Density)
3D model EPM5128-PLCC68 (68-Pin Plastic J-Lead Chip Carrier (PLCC68))
pins: 1 INPUT/CLK (in), 2 INPUT (in), 3 VCC (power), 4 I/O (io), 5 I/O (io), 6 I/O (io), 7 I/O (io), 8 I/O (io), 9 I/O (io), 10 I/O (io), 11 I/O (io), 12 I/O (io), 13 I/O (io), 14 I/O (io), 15 I/O (io), 16 GND (power), 17 I/O (io), 18 I/O (io), 19 I/O (io), 20 VCC (power), 21 I/O (io), 22 I/O (io), 23 I/O (io), 24 I/O (io), 25 I/O (io), 26 I/O (io), 27 I/O (io), 28 I/O (io), 29 I/O (io), 30 I/O (io), 31 I/O (io), 32 INPUT (in), 33 GND (power), 34 INPUT (in), 35 INPUT (in), 36 INPUT (in), 37 VCC (power), 38 I/O (io), 39 I/O (io), 40 I/O (io), 41 I/O (io), 42 I/O (io), 43 I/O (io), 44 I/O (io), 45 I/O (io), 46 I/O (io), 47 I/O (io), 48 I/O (io), 49 I/O (io), 50 GND (power), 51 I/O (io), 52 I/O (io), 53 I/O (io), 54 VCC (power), 55 I/O (io), 56 I/O (io), 57 I/O (io), 58 I/O (io), 59 I/O (io), 60 I/O (io), 61 I/O (io), 62 I/O (io), 63 I/O (io), 64 I/O (io), 65 I/O (io), 66 INPUT (in), 67 GND (power), 68 INPUT (in)

## EPM5128GC-1
designator U?
General-Purpose MAX 5000 EPLD with 128 Macrocells, PGA68, Commercial Grade; ComponentAvailability: Discontinued; Published: 24-Nov-2000; LatestRevisionDate: 04-Mar-2005; LatestRevisionNote: Stylized 3D Model Added.; DatasheetVersion: Sep-1991; PackageVersion: ver14.1, Oct-2005; PackageReference: PGA68; Publisher: Altium Limited; PackageDescription: 68-Pin Ceramic Pin Grid Array (PGA68); Code_JEDEC: MO-066-AC; ComponentLink1Description: Manufacturer Link; ComponentLink1URL: http://www.altera.com/literature/lit-mature.jsp
footprint PGA68 (PGA, 68-Leads, Body 28x28mm, Pitch 2.54mm)
3D model EPM5128-PGA68 (68-Pin Ceramic Pin Grid Array (PGA68))
pins: A2 I/O (io), A3 I/O (io), A4 I/O (io), A5 I/O (io), A6 INPUT (in), A7 INPUT (in), A8 INPUT (in), A9 I/O (io), A10 I/O (io), B1 I/O (io), B2 I/O (io), B3 I/O (io), B4 I/O (io), B5 VCC (power), B6 INPUT/CLK (in), B7 GND (power), B8 I/O (io), B9 I/O (io), B10 I/O (io), B11 I/O (io), C1 I/O (io), C2 I/O (io), C10 I/O (io), C11 I/O (io), D1 I/O (io), D2 I/O (io), D10 I/O (io), D11 I/O (io), E1 I/O (io), E2 GND (power), E10 VCC (power), E11 I/O (io), F1 I/O (io), F2 I/O (io), F10 I/O (io), F11 I/O (io), G1 I/O (io), G2 VCC (power), G10 GND (power), G11 I/O (io), H1 I/O (io), H2 I/O (io), H10 I/O (io), H11 I/O (io), J1 I/O (io), J2 I/O (io), J10 I/O (io), J11 I/O (io), K1 I/O (io), K2 I/O (io), K3 I/O (io), K4 I/O (io), K5 GND (power), K6 INPUT (in), K7 VCC (power), K8 I/O (io), K9 I/O (io), K10 I/O (io), K11 I/O (io), L2 I/O (io), L3 I/O (io), L4 INPUT (in), L5 INPUT (in), L6 INPUT (in), L7 I/O (io), L8 I/O (io), L9 I/O (io), L10 I/O (io)

## EPM5128GI
designator U?
General-Purpose MAX 5000 EPLD with 128 Macrocells, PGA68, Industrial Grade; ComponentAvailability: Discontinued; Published: 24-Nov-2000; LatestRevisionDate: 04-Mar-2005; LatestRevisionNote: Stylized 3D Model Added.; DatasheetVersion: Sep-1991; PackageVersion: ver14.1, Oct-2005; PackageReference: PGA68; Publisher: Altium Limited; PackageDescription: 68-Pin Ceramic Pin Grid Array (PGA68); Code_JEDEC: MO-066-AC; ComponentLink1Description: Manufacturer Link; ComponentLink1URL: http://www.altera.com/literature/lit-mature.jsp
footprint PGA68 (PGA, 68-Leads, Body 28x28mm, Pitch 2.54mm)
3D model EPM5128-PGA68 (68-Pin Ceramic Pin Grid Array (PGA68))
pins: A2 I/O (io), A3 I/O (io), A4 I/O (io), A5 I/O (io), A6 INPUT (in), A7 INPUT (in), A8 INPUT (in), A9 I/O (io), A10 I/O (io), B1 I/O (io), B2 I/O (io), B3 I/O (io), B4 I/O (io), B5 VCC (power), B6 INPUT/CLK (in), B7 GND (power), B8 I/O (io), B9 I/O (io), B10 I/O (io), B11 I/O (io), C1 I/O (io), C2 I/O (io), C10 I/O (io), C11 I/O (io), D1 I/O (io), D2 I/O (io), D10 I/O (io), D11 I/O (io), E1 I/O (io), E2 GND (power), E10 VCC (power), E11 I/O (io), F1 I/O (io), F2 I/O (io), F10 I/O (io), F11 I/O (io), G1 I/O (io), G2 VCC (power), G10 GND (power), G11 I/O (io), H1 I/O (io), H2 I/O (io), H10 I/O (io), H11 I/O (io), J1 I/O (io), J2 I/O (io), J10 I/O (io), J11 I/O (io), K1 I/O (io), K2 I/O (io), K3 I/O (io), K4 I/O (io), K5 GND (power), K6 INPUT (in), K7 VCC (power), K8 I/O (io), K9 I/O (io), K10 I/O (io), K11 I/O (io), L2 I/O (io), L3 I/O (io), L4 INPUT (in), L5 INPUT (in), L6 INPUT (in), L7 I/O (io), L8 I/O (io), L9 I/O (io), L10 I/O (io)

## EPM5128JC-1
designator U?
General-Purpose MAX 5000 EPLD with 128 Macrocells, JLCC68, Commercial Grade; ComponentAvailability: Discontinued; Published: 24-Nov-2000; LatestRevisionDate: 13-Apr-2006; LatestRevisionNote: IPC-7351 Footprint Added.; DatasheetVersion: Sep-1991; PackageVersion: ver8.02, Jun-2000; PackageReference: JLCC68; Publisher: Altium Limited; PackageDescription: 68-Pin Ceramic J-Lead Chip Carrier (JLCC68); Code_JEDEC: MO-087; ComponentLink1Description: Manufacturer Link; ComponentLink1URL: http://www.altera.com/literature/lit-mature.jsp
footprint JLCC68_N (Leaded Chip Carrier, 68-Leads, Body 24x24mm, Pitch 1.27mm, IPC Medium Density)
footprint JLCC68_L (Leaded Chip Carrier, 68-Leads, Body 24x24mm, Pitch 1.27mm, IPC High Density)
footprint JLCC68_M (Leaded Chip Carrier, 68-Leads, Body 24x24mm, Pitch 1.27mm, IPC Low Density)
3D model EPM5128-JLCC68 (68-Pin Ceramic J-Lead Chip Carrier (JLCC68))
pins: 1 INPUT/CLK (in), 2 INPUT (in), 3 VCC (power), 4 I/O (io), 5 I/O (io), 6 I/O (io), 7 I/O (io), 8 I/O (io), 9 I/O (io), 10 I/O (io), 11 I/O (io), 12 I/O (io), 13 I/O (io), 14 I/O (io), 15 I/O (io), 16 GND (power), 17 I/O (io), 18 I/O (io), 19 I/O (io), 20 VCC (power), 21 I/O (io), 22 I/O (io), 23 I/O (io), 24 I/O (io), 25 I/O (io), 26 I/O (io), 27 I/O (io), 28 I/O (io), 29 I/O (io), 30 I/O (io), 31 I/O (io), 32 INPUT (in), 33 GND (power), 34 INPUT (in), 35 INPUT (in), 36 INPUT (in), 37 VCC (power), 38 I/O (io), 39 I/O (io), 40 I/O (io), 41 I/O (io), 42 I/O (io), 43 I/O (io), 44 I/O (io), 45 I/O (io), 46 I/O (io), 47 I/O (io), 48 I/O (io), 49 I/O (io), 50 GND (power), 51 I/O (io), 52 I/O (io), 53 I/O (io), 54 VCC (power), 55 I/O (io), 56 I/O (io), 57 I/O (io), 58 I/O (io), 59 I/O (io), 60 I/O (io), 61 I/O (io), 62 I/O (io), 63 I/O (io), 64 I/O (io), 65 I/O (io), 66 INPUT (in), 67 GND (power), 68 INPUT (in)

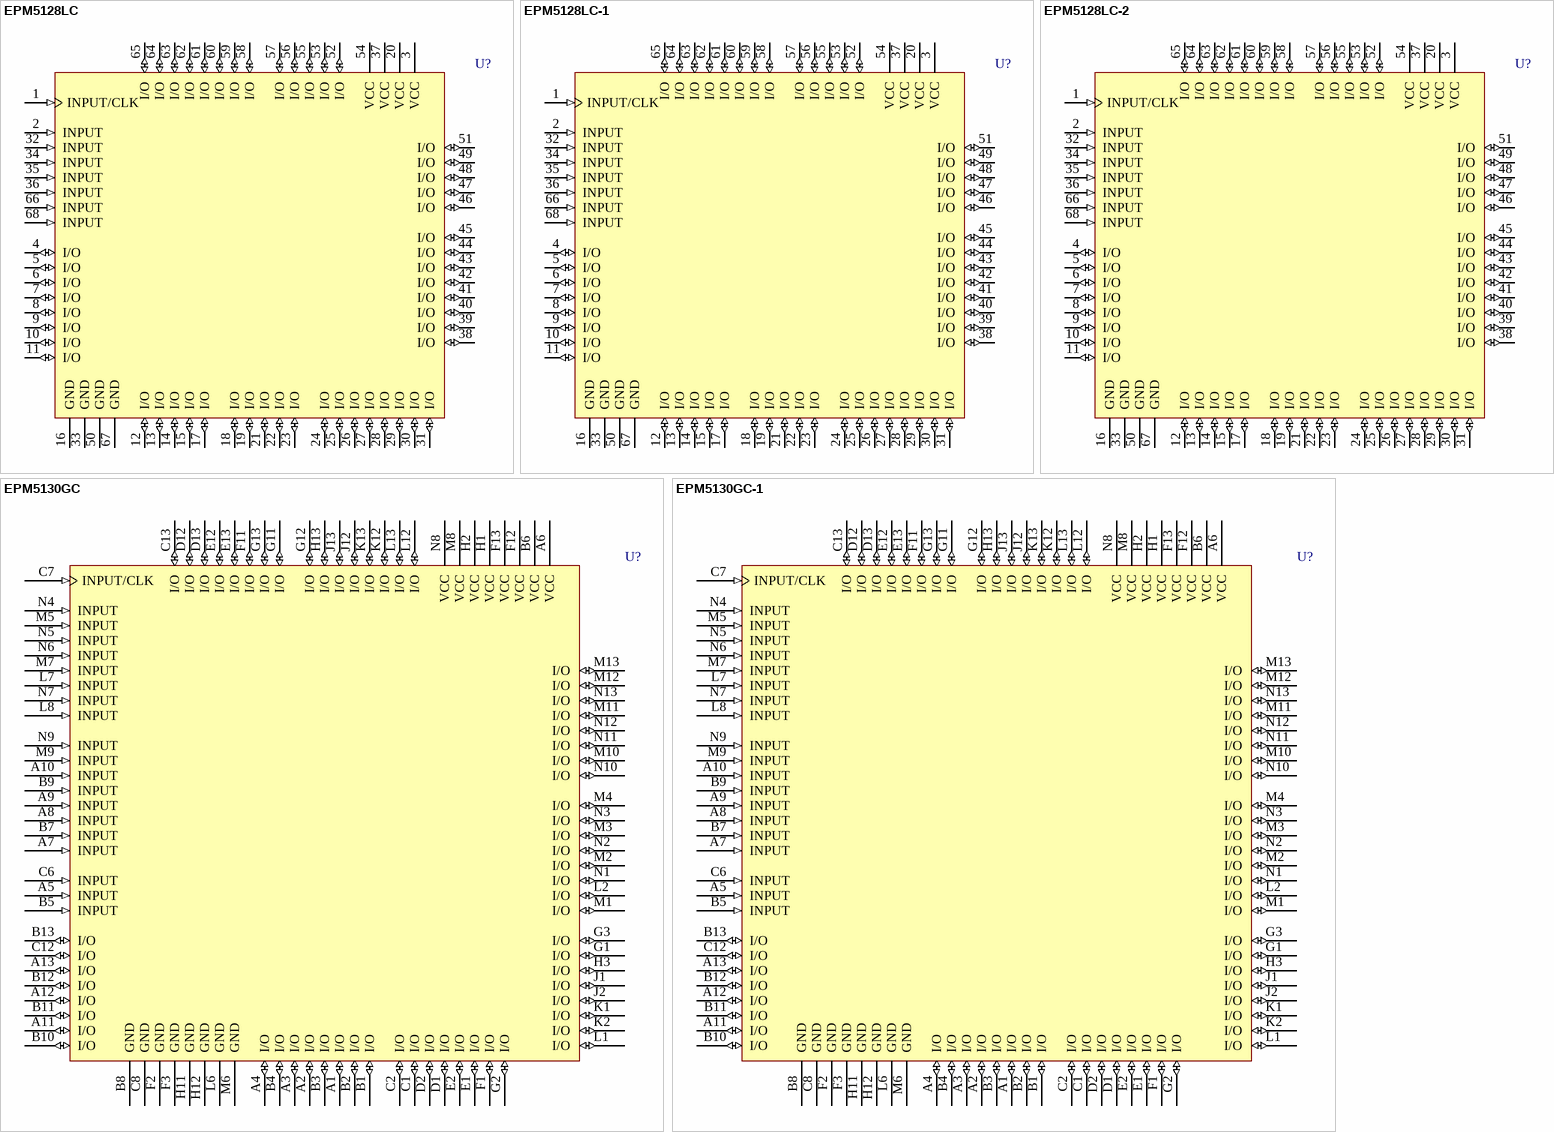
[diagram p2: symbols EPM5128LC to EPM5130GC-1]

## EPM5128LC
designator U?
General-Purpose MAX 5000 EPLD with 128 Macrocells, PLCC68, Commercial Grade; ComponentAvailability: Discontinued; Published: 24-Nov-2000; LatestRevisionDate: 13-Apr-2006; LatestRevisionNote: IPC-7351 Footprint Added.; DatasheetVersion: Sep-1991; PackageVersion: ver14.1, Oct-2005; PackageReference: PLCC68; Publisher: Altium Limited; PackageDescription: 68-Pin Plastic J-Lead Chip Carrier (PLCC68); Code_JEDEC: MS-018-AE; Code_IPC: PLCC-68; ComponentLink1Description: Manufacturer Link; ComponentLink1URL: http://www.altera.com/literature/lit-mature.jsp
footprint PLCC68_N (Leaded Chip Carrier, 68-Leads, Body 24x24mm, Pitch 1.27mm, IPC Medium Density)
footprint PLCC68_L (Leaded Chip Carrier, 68-Leads, Body 24x24mm, Pitch 1.27mm, IPC High Density)
footprint PLCC68_M (Leaded Chip Carrier, 68-Leads, Body 24x24mm, Pitch 1.27mm, IPC Low Density)
3D model EPM5128-PLCC68 (68-Pin Plastic J-Lead Chip Carrier (PLCC68))
pins: 1 INPUT/CLK (in), 2 INPUT (in), 3 VCC (power), 4 I/O (io), 5 I/O (io), 6 I/O (io), 7 I/O (io), 8 I/O (io), 9 I/O (io), 10 I/O (io), 11 I/O (io), 12 I/O (io), 13 I/O (io), 14 I/O (io), 15 I/O (io), 16 GND (power), 17 I/O (io), 18 I/O (io), 19 I/O (io), 20 VCC (power), 21 I/O (io), 22 I/O (io), 23 I/O (io), 24 I/O (io), 25 I/O (io), 26 I/O (io), 27 I/O (io), 28 I/O (io), 29 I/O (io), 30 I/O (io), 31 I/O (io), 32 INPUT (in), 33 GND (power), 34 INPUT (in), 35 INPUT (in), 36 INPUT (in), 37 VCC (power), 38 I/O (io), 39 I/O (io), 40 I/O (io), 41 I/O (io), 42 I/O (io), 43 I/O (io), 44 I/O (io), 45 I/O (io), 46 I/O (io), 47 I/O (io), 48 I/O (io), 49 I/O (io), 50 GND (power), 51 I/O (io), 52 I/O (io), 53 I/O (io), 54 VCC (power), 55 I/O (io), 56 I/O (io), 57 I/O (io), 58 I/O (io), 59 I/O (io), 60 I/O (io), 61 I/O (io), 62 I/O (io), 63 I/O (io), 64 I/O (io), 65 I/O (io), 66 INPUT (in), 67 GND (power), 68 INPUT (in)

## EPM5128LC-1
designator U?
General-Purpose MAX 5000 EPLD with 128 Macrocells, PLCC68, Commercial Grade; ComponentAvailability: Discontinued; Published: 24-Nov-2000; LatestRevisionDate: 13-Apr-2006; LatestRevisionNote: IPC-7351 Footprint Added.; DatasheetVersion: Sep-1991; PackageVersion: ver14.1, Oct-2005; PackageReference: PLCC68; Publisher: Altium Limited; PackageDescription: 68-Pin Plastic J-Lead Chip Carrier (PLCC68); Code_JEDEC: MS-018-AE; Code_IPC: PLCC-68; ComponentLink1Description: Manufacturer Link; ComponentLink1URL: http://www.altera.com/literature/lit-mature.jsp
footprint PLCC68_N (Leaded Chip Carrier, 68-Leads, Body 24x24mm, Pitch 1.27mm, IPC Medium Density)
footprint PLCC68_L (Leaded Chip Carrier, 68-Leads, Body 24x24mm, Pitch 1.27mm, IPC High Density)
footprint PLCC68_M (Leaded Chip Carrier, 68-Leads, Body 24x24mm, Pitch 1.27mm, IPC Low Density)
3D model EPM5128-PLCC68 (68-Pin Plastic J-Lead Chip Carrier (PLCC68))
pins: 1 INPUT/CLK (in), 2 INPUT (in), 3 VCC (power), 4 I/O (io), 5 I/O (io), 6 I/O (io), 7 I/O (io), 8 I/O (io), 9 I/O (io), 10 I/O (io), 11 I/O (io), 12 I/O (io), 13 I/O (io), 14 I/O (io), 15 I/O (io), 16 GND (power), 17 I/O (io), 18 I/O (io), 19 I/O (io), 20 VCC (power), 21 I/O (io), 22 I/O (io), 23 I/O (io), 24 I/O (io), 25 I/O (io), 26 I/O (io), 27 I/O (io), 28 I/O (io), 29 I/O (io), 30 I/O (io), 31 I/O (io), 32 INPUT (in), 33 GND (power), 34 INPUT (in), 35 INPUT (in), 36 INPUT (in), 37 VCC (power), 38 I/O (io), 39 I/O (io), 40 I/O (io), 41 I/O (io), 42 I/O (io), 43 I/O (io), 44 I/O (io), 45 I/O (io), 46 I/O (io), 47 I/O (io), 48 I/O (io), 49 I/O (io), 50 GND (power), 51 I/O (io), 52 I/O (io), 53 I/O (io), 54 VCC (power), 55 I/O (io), 56 I/O (io), 57 I/O (io), 58 I/O (io), 59 I/O (io), 60 I/O (io), 61 I/O (io), 62 I/O (io), 63 I/O (io), 64 I/O (io), 65 I/O (io), 66 INPUT (in), 67 GND (power), 68 INPUT (in)

## EPM5128LC-2
designator U?
General-Purpose MAX 5000 EPLD with 128 Macrocells, PLCC68, Commercial Grade; ComponentAvailability: Discontinued; Published: 24-Nov-2000; LatestRevisionDate: 13-Apr-2006; LatestRevisionNote: IPC-7351 Footprint Added.; DatasheetVersion: Sep-1991; PackageVersion: ver14.1, Oct-2005; PackageReference: PLCC68; Publisher: Altium Limited; PackageDescription: 68-Pin Plastic J-Lead Chip Carrier (PLCC68); Code_JEDEC: MS-018-AE; Code_IPC: PLCC-68; ComponentLink1Description: Manufacturer Link; ComponentLink1URL: http://www.altera.com/literature/lit-mature.jsp
footprint PLCC68_N (Leaded Chip Carrier, 68-Leads, Body 24x24mm, Pitch 1.27mm, IPC Medium Density)
footprint PLCC68_L (Leaded Chip Carrier, 68-Leads, Body 24x24mm, Pitch 1.27mm, IPC High Density)
footprint PLCC68_M (Leaded Chip Carrier, 68-Leads, Body 24x24mm, Pitch 1.27mm, IPC Low Density)
3D model EPM5128-PLCC68 (68-Pin Plastic J-Lead Chip Carrier (PLCC68))
pins: 1 INPUT/CLK (in), 2 INPUT (in), 3 VCC (power), 4 I/O (io), 5 I/O (io), 6 I/O (io), 7 I/O (io), 8 I/O (io), 9 I/O (io), 10 I/O (io), 11 I/O (io), 12 I/O (io), 13 I/O (io), 14 I/O (io), 15 I/O (io), 16 GND (power), 17 I/O (io), 18 I/O (io), 19 I/O (io), 20 VCC (power), 21 I/O (io), 22 I/O (io), 23 I/O (io), 24 I/O (io), 25 I/O (io), 26 I/O (io), 27 I/O (io), 28 I/O (io), 29 I/O (io), 30 I/O (io), 31 I/O (io), 32 INPUT (in), 33 GND (power), 34 INPUT (in), 35 INPUT (in), 36 INPUT (in), 37 VCC (power), 38 I/O (io), 39 I/O (io), 40 I/O (io), 41 I/O (io), 42 I/O (io), 43 I/O (io), 44 I/O (io), 45 I/O (io), 46 I/O (io), 47 I/O (io), 48 I/O (io), 49 I/O (io), 50 GND (power), 51 I/O (io), 52 I/O (io), 53 I/O (io), 54 VCC (power), 55 I/O (io), 56 I/O (io), 57 I/O (io), 58 I/O (io), 59 I/O (io), 60 I/O (io), 61 I/O (io), 62 I/O (io), 63 I/O (io), 64 I/O (io), 65 I/O (io), 66 INPUT (in), 67 GND (power), 68 INPUT (in)

## EPM5130GC
designator U?
General-Purpose MAX 5000 EPLD with 128 Macrocells, PGA100, Commercial Grade; ComponentAvailability: Discontinued; Published: 24-Nov-2000; LatestRevisionDate: 04-Mar-2005; LatestRevisionNote: Stylized 3D Model Added.; DatasheetVersion: Mar-1995; PackageVersion: ver8.02, Jun-2000; PackageReference: PGA100; Publisher: Altium Limited; PackageDescription: 100-Pin Ceramic Pin Grid Array (PGA100); Code_JEDEC: MO-067; ComponentLink1Description: Manufacturer Link; ComponentLink1URL: http://www.altera.com/literature/lit-mature.jsp
footprint PGA100 (PGA, 100-Leads, Body 33.5x33.5mm, Pitch 2.54mm)
3D model EPM5130-PGA100 (100-Pin Ceramic Pin Grid Array (PGA100))
pins: A1 I/O (io), A2 I/O (io), A3 I/O (io), A4 I/O (io), A5 INPUT (in), A6 VCC (power), A7 INPUT (in), A8 INPUT (in), A9 INPUT (in), A10 INPUT (in), A11 I/O (io), A12 I/O (io), A13 I/O (io), B1 I/O (io), B2 I/O (io), B3 I/O (io), B4 I/O (io), B5 INPUT (in), B6 VCC (power), B7 INPUT (in), B8 GND (power), B9 INPUT (in), B10 I/O (io), B11 I/O (io), B12 I/O (io), B13 I/O (io), C1 I/O (io), C2 I/O (io), C6 INPUT (in), C7 INPUT/CLK (in), C8 GND (power), C12 I/O (io), C13 I/O (io), D1 I/O (io), D2 I/O (io), D12 I/O (io), D13 I/O (io), E1 I/O (io), E2 I/O (io), E12 I/O (io), E13 I/O (io), F1 I/O (io), F2 GND (power), F3 GND (power), F11 I/O (io), F12 VCC (power), F13 VCC (power), G1 I/O (io), G2 I/O (io), G3 I/O (io), G11 I/O (io), G12 I/O (io), G13 I/O (io), H1 VCC (power), H2 VCC (power), H3 I/O (io), H11 GND (power), H12 GND (power), H13 I/O (io), J1 I/O (io), J2 I/O (io), J12 I/O (io), J13 I/O (io), K1 I/O (io), K2 I/O (io), K12 I/O (io), K13 I/O (io), L1 I/O (io), L2 I/O (io), L6 GND (power), L7 INPUT (in), L8 INPUT (in), L12 I/O (io), L13 I/O (io), M1 I/O (io), M2 I/O (io), M3 I/O (io), M4 I/O (io), M5 INPUT (in), M6 GND (power), M7 INPUT (in), M8 VCC (power), M9 INPUT (in), M10 I/O (io), M11 I/O (io), M12 I/O (io), M13 I/O (io), N1 I/O (io), N2 I/O (io), N3 I/O (io), N4 INPUT (in), N5 INPUT (in), N6 INPUT (in), N7 INPUT (in), N8 VCC (power), N9 INPUT (in), N10 I/O (io), N11 I/O (io), N12 I/O (io), N13 I/O (io)

## EPM5130GC-1
designator U?
General-Purpose MAX 5000 EPLD with 128 Macrocells, PGA100, Commercial Grade; ComponentAvailability: Discontinued; Published: 24-Nov-2000; LatestRevisionDate: 04-Mar-2005; LatestRevisionNote: Stylized 3D Model Added.; DatasheetVersion: Mar-1995; PackageVersion: ver8.02, Jun-2000; PackageReference: PGA100; Publisher: Altium Limited; PackageDescription: 100-Pin Ceramic Pin Grid Array (PGA100); Code_JEDEC: MO-067; ComponentLink1Description: Manufacturer Link; ComponentLink1URL: http://www.altera.com/literature/lit-mature.jsp
footprint PGA100 (PGA, 100-Leads, Body 33.5x33.5mm, Pitch 2.54mm)
3D model EPM5130-PGA100 (100-Pin Ceramic Pin Grid Array (PGA100))
pins: A1 I/O (io), A2 I/O (io), A3 I/O (io), A4 I/O (io), A5 INPUT (in), A6 VCC (power), A7 INPUT (in), A8 INPUT (in), A9 INPUT (in), A10 INPUT (in), A11 I/O (io), A12 I/O (io), A13 I/O (io), B1 I/O (io), B2 I/O (io), B3 I/O (io), B4 I/O (io), B5 INPUT (in), B6 VCC (power), B7 INPUT (in), B8 GND (power), B9 INPUT (in), B10 I/O (io), B11 I/O (io), B12 I/O (io), B13 I/O (io), C1 I/O (io), C2 I/O (io), C6 INPUT (in), C7 INPUT/CLK (in), C8 GND (power), C12 I/O (io), C13 I/O (io), D1 I/O (io), D2 I/O (io), D12 I/O (io), D13 I/O (io), E1 I/O (io), E2 I/O (io), E12 I/O (io), E13 I/O (io), F1 I/O (io), F2 GND (power), F3 GND (power), F11 I/O (io), F12 VCC (power), F13 VCC (power), G1 I/O (io), G2 I/O (io), G3 I/O (io), G11 I/O (io), G12 I/O (io), G13 I/O (io), H1 VCC (power), H2 VCC (power), H3 I/O (io), H11 GND (power), H12 GND (power), H13 I/O (io), J1 I/O (io), J2 I/O (io), J12 I/O (io), J13 I/O (io), K1 I/O (io), K2 I/O (io), K12 I/O (io), K13 I/O (io), L1 I/O (io), L2 I/O (io), L6 GND (power), L7 INPUT (in), L8 INPUT (in), L12 I/O (io), L13 I/O (io), M1 I/O (io), M2 I/O (io), M3 I/O (io), M4 I/O (io), M5 INPUT (in), M6 GND (power), M7 INPUT (in), M8 VCC (power), M9 INPUT (in), M10 I/O (io), M11 I/O (io), M12 I/O (io), M13 I/O (io), N1 I/O (io), N2 I/O (io), N3 I/O (io), N4 INPUT (in), N5 INPUT (in), N6 INPUT (in), N7 INPUT (in), N8 VCC (power), N9 INPUT (in), N10 I/O (io), N11 I/O (io), N12 I/O (io), N13 I/O (io)

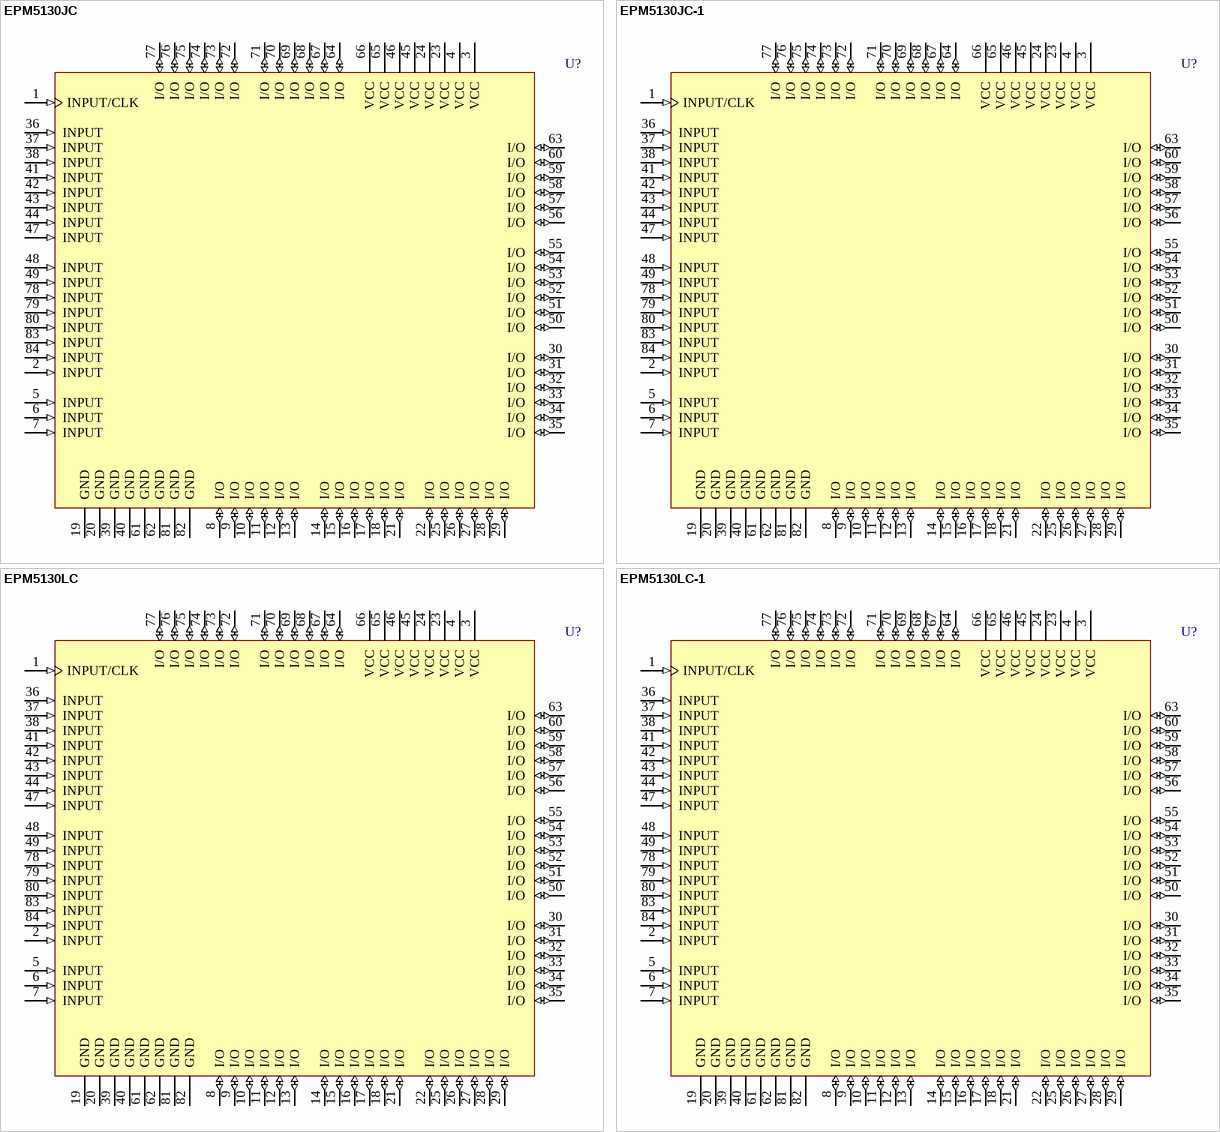
[diagram p3: symbols EPM5130JC to EPM5130LC-1]

## EPM5130JC
designator U?
General-Purpose MAX 5000 EPLD with 128 Macrocells, JLCC84, Commercial Grade; ComponentAvailability: Discontinued; Published: 24-Nov-2000; LatestRevisionDate: 13-Apr-2006; LatestRevisionNote: IPC-7351 Footprint Added.; DatasheetVersion: Mar-1995; PackageVersion: ver8.02, Jun-2000; PackageReference: JLCC84; Publisher: Altium Limited; PackageDescription: 84-Pin Ceramic J-Lead Chip Carrier (JLCC84); Code_JEDEC: MO-087; ComponentLink1Description: Manufacturer Link; ComponentLink1URL: http://www.altera.com/literature/lit-mature.jsp
footprint JLCC84_N (Leaded Chip Carrier, 84-Leads, Body 29.2x29.2mm, Pitch 1.27mm, IPC Medium Density)
footprint JLCC84_L (Leaded Chip Carrier, 84-Leads, Body 29.2x29.2mm, Pitch 1.27mm, IPC High Density)
footprint JLCC84_M (Leaded Chip Carrier, 84-Leads, Body 29.2x29.2mm, Pitch 1.27mm, IPC Low Density)
3D model EPM5130-JLCC84 (84-Pin Ceramic J-Lead Chip Carrier (JLCC84))
pins: 1 INPUT/CLK (in), 2 INPUT (in), 3 VCC (power), 4 VCC (power), 5 INPUT (in), 6 INPUT (in), 7 INPUT (in), 8 I/O (io), 9 I/O (io), 10 I/O (io), 11 I/O (io), 12 I/O (io), 13 I/O (io), 14 I/O (io), 15 I/O (io), 16 I/O (io), 17 I/O (io), 18 I/O (io), 19 GND (power), 20 GND (power), 21 I/O (io), 22 I/O (io), 23 VCC (power), 24 VCC (power), 25 I/O (io), 26 I/O (io), 27 I/O (io), 28 I/O (io), 29 I/O (io), 30 I/O (io), 31 I/O (io), 32 I/O (io), 33 I/O (io), 34 I/O (io), 35 I/O (io), 36 INPUT (in), 37 INPUT (in), 38 INPUT (in), 39 GND (power), 40 GND (power), 41 INPUT (in), 42 INPUT (in), 43 INPUT (in), 44 INPUT (in), 45 VCC (power), 46 VCC (power), 47 INPUT (in), 48 INPUT (in), 49 INPUT (in), 50 I/O (io), 51 I/O (io), 52 I/O (io), 53 I/O (io), 54 I/O (io), 55 I/O (io), 56 I/O (io), 57 I/O (io), 58 I/O (io), 59 I/O (io), 60 I/O (io), 61 GND (power), 62 GND (power), 63 I/O (io), 64 I/O (io), 65 VCC (power), 66 VCC (power), 67 I/O (io), 68 I/O (io), 69 I/O (io), 70 I/O (io), 71 I/O (io), 72 I/O (io), 73 I/O (io), 74 I/O (io), 75 I/O (io), 76 I/O (io), 77 I/O (io), 78 INPUT (in), 79 INPUT (in), 80 INPUT (in), 81 GND (power), 82 GND (power), 83 INPUT (in), 84 INPUT (in)